# EAGLE library part TRANSFORMER_POE (library !GPLIB_PASSIVE)
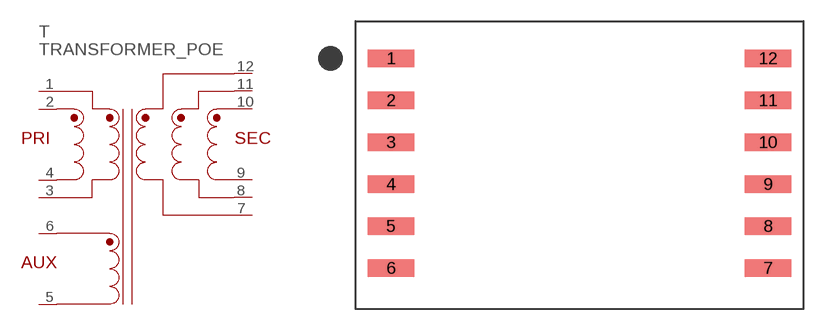
[diagram p2: symbol with the pads of TRANSFORMER_POE_20.5X30MM; footprint TRANSFORMER_POE_20.5X30MM]

Designator prefix T

## TRANSFORMER_POE_POE600F-50LD  [TRANSFORMER_POE_20.5X30MM]
1  PRI-1A  pas
2  PRI-2A  pas
3  PRI-1B  pas
4  PRI-2B  pas
5  AUX-2  pas
6  AUX-1  pas
7  SEC-1B  pas
8  SEC-2B  pas
9  SEC-3B  pas
10  SEC-3A  pas
11  SEC-2A  pas
12  SEC-1A  pas

## Footprint TRANSFORMER_POE_20.5X30MM (pad centres in mm)
smd 3.3 x 1.27: 1 -13.46,7.62; 2 -13.46,4.62; 3 -13.46,1.62; 4 -13.46,-1.38; 5 -13.46,-4.38; 6 -13.46,-7.38; 7 13.46,-7.38; 8 13.46,-4.38; 9 13.46,-1.38; 10 13.46,1.62; 11 13.46,4.62; 12 13.46,7.62